# Altium schematic symbol library PV Buck v2.SCHLIB: 45 symbols
Pins are listed as number, name and electrical type; pins without a type are passive.

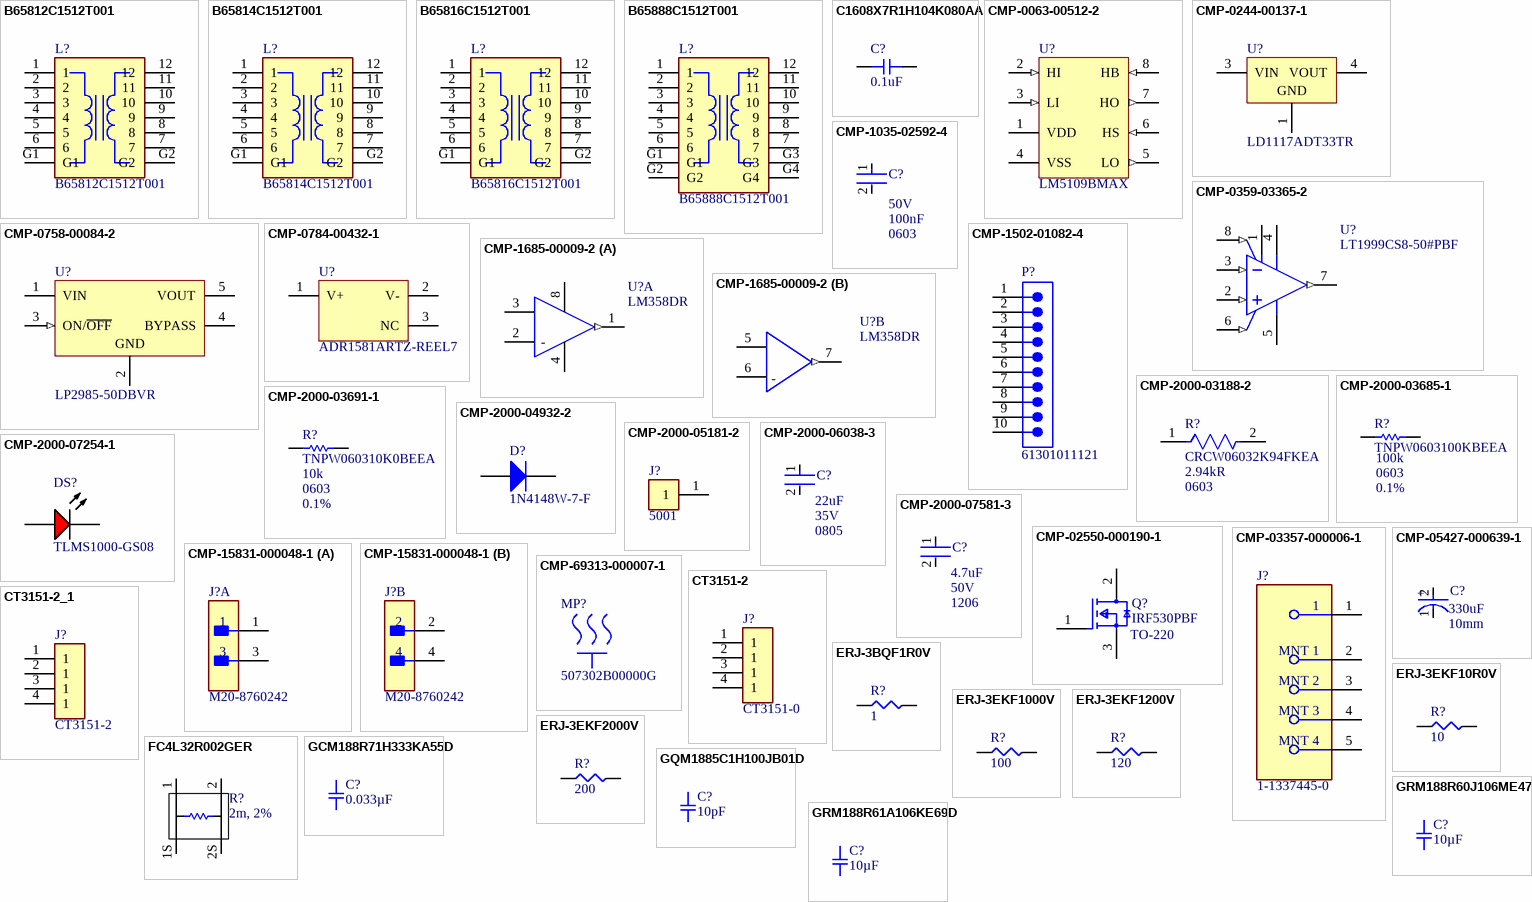
[diagram p0: symbols B65812C1512T001 to GRM188R61A106KE69D]

## B65812C1512T001
designator L?
BOBBIN COIL FORMER RM 8
footprint B65812C1512T001 (BOBBIN COIL FORMER RM8)
pins: 1, 2, 3, 4, 5, 6, 7, 8, 9, 10, 11, 12, G1, G2

## B65814C1512T001
designator L?
Coil Former, Rm 10, 1 Section, 12 Pin; MF: {'manufacturer': u'EPCOS'}; Package: None; Price: None; Value: *; MP: B65814C1512T001; Availability: Unavailable
footprint XFMR_B65814C1512T001
pins: 1, 2, 3, 4, 5, 6, 7, 8, 9, 10, 11, 12, G1, G2

## B65816C1512T001
designator L?
BOBBIN COIL FORMER RM 12
footprint B65816C1512T001 (BOBBIN COIL FORMER RM 12)
pins: 1, 2, 3, 4, 5, 6, 7, 8, 9, 10, 11, 12, G1, G2

## B65888C1512T001
designator L?
BOBBIN COIL FORMER RM 14
footprint B65888C1512T001 (BOBBIN COIL FORMER RM 14)
pins: 1, 2, 3, 4, 5, 6, 7, 8, 9, 10, 11, 12, G1, G2, G3, G4

## C1608X7R1H104K080AA
designator C?, comment 0.1uF
0.1uF, 0603, +/- 10%, 50V, X7R; Tolerance: +/- 10%; MfgPN: C1608X7R1H104K080AA; ID: 1; Mfg: TDK Corporation; TempOperatingMax: 125; TempOperatingMin: -55; TempStorageMax: 40; TempStorageMin: 5; Value: 0.1uF; Voltage: 50V; Material: X7R; RoHS: True; SMD: True; Footprint: 0603; Supplier 1: Digi-Key; Supplier Part Number 1: 445-1314-1-ND
footprint GENERIC_0603_CAP
pins: 1, 2

## CMP-0063-00512-2
designator U?, comment LM5109BMAX
High Voltage 1A Peak Half Bridge Gate Driver, 8-pin Narrow SOIC; Manufacturer: National Semiconductor; Manufacturer: TI National Semiconductor; PowerWise: N; PackageTopMarking: NSZXTT*L5109*BMA; CompType: MiscPower; ComponentLink2URL: http://www.national.com/pf/LM/LM5109B.html; PackageReference: M08A; Code_IPC: SOIC127P600-8; ComponentLink1Description: LM5109B Datasheet; ComponentLink1URL: http://www.national.com/ds/LM/LM5109B.pdf; ComponentLink3Description: M08A Package Page; RoHS: N; ComponentLink3URL: http://www.national.com/packaging/folders/m08a.html; ComponentLink2Description: LM5109B Web Page; DatasheetVersion: Feb-2007; PinCount: 8; RevisionNote: Component URLs added; Code_JEDEC: MS-012-AA; PackageVersion: revM, May-2009; PackageDescription: SOIC Narrow, 4.9 x 3.9 x 1.45mm, 8 Lead, 1.27mm Pitch; Manufacturer Part Number: LM5109BMAX
footprint M08A_L (SOIC, 8-Leads, Body 4.9x3.9mm, Pitch 1.27mm, IPC High Density)
footprint M08A_N (SOIC, 8-Leads, Body 4.9x3.9mm, Pitch 1.27mm, IPC Medium Density)
footprint M08A_M (SOIC, 8-Leads, Body 4.9x3.9mm, Pitch 1.27mm, IPC Low Density)
pins: 1 VDD (power), 2 HI (in), 3 LI (in), 4 VSS (power), 5 LO (out), 6 HS (in), 7 HO (out), 8 HB (in)

## CMP-0244-00137-1
designator U?, comment LD1117ADT33TR
1A, Low Drop Positive Voltage Regulator, 3.3V, 3-Pin DPAK, Tape and Reel; Manufacturer: STMicroelectronics; ComponentLink2URL: http://www.st.com/internet/com/TECHNICAL_RESOURCES/TECHNICAL_LITERATURE/DATASHEET/CD00002116.pdf; ComponentLink2Description: Datasheet; ComponentLink1URL: http://www.st.com; PackageDescription: 3-Pin Transistor Outline Package 2.28 mm Pitch, 9.7 mm Lead Span (DPAK); ComponentLink1Description: Manufacturer URL; PackageVersion: 2011; PackageReference: TO-252; DatasheetVersion: 2/12/2011; Manufacturer Part Number: LD1117ADT33TR
footprint TO-252_L (D-PAK, 4-Leads, Body 6.1x6.5mm, Pitch 2.28mm, Lead Span 9.7mm, IPC High Density)
footprint TO-252_N (D-PAK, 4-Leads, Body 6.1x6.5mm, Pitch 2.28mm, Lead Span 9.7mm, IPC Medium Density)
footprint TO-252_M (D-PAK, 4-Leads, Body 6.1x6.5mm, Pitch 2.28mm, Lead Span 9.7mm, IPC Low Density)
pins: 1 GND (power), 3 VIN (power), 4 VOUT (power)

## CMP-0359-03365-2
designator U?, comment LT1999CS8-50#PBF
Single Channel, High Voltage, Bidirectional Current Sense Amplifier, 2 MHz Typical GBW, 3 V/us Typical SR, 4.5 to 5.5 V, 8-Pin SOIC (S8-8), Commercial, Pb-Free; Manufacturer: Linear Technology; Linear Technology Part Number: LT1999-50; Manufacturer: Analog Devices / Linear Technology; Vos (mV) Typical: 0.5; SR (V/us) Typical: 3; Is (mA) Typical: 1.55; GBW (MHz) Typical: 2; Vs Min (V): 4.5; Vs Max (V): 5.5; Channels (#): 1; RoHS: Pb-Free; PackageDescription: 8-Pin Plastic Small Outline, Body 4.9 x 3.9 mm, Pitch 1.27 mm; ComponentLink3Description: Package Specification; PackageReference: LT-S8-8; PartNumber: LT1999CS8-50#PBF; DatasheetVersion: Rev. B; ComponentLink1URL: http://www.linear.com/; RevisionNote: URLs updated; Type: CSA; ComponentLink2URL: http://cds.linear.com/docs/en/datasheet/1999fb.pdf; Mounting Technology: Surface Mount; ComponentLink3URL: http://cds.linear.com/docs/en/packaging/05081610_G_SO8.pdf; ComponentLink1Description: Manufacturer URL; PackageVersion: Rev G; ComponentLink2Description: Datasheet; Manufacturer Part Number: LT1999CS8-50#PBF
footprint LT-S8-8_L (SOIC, 8-Leads, Body 4.9x3.9mm, Pitch 1.27mm, IPC High Density)
footprint LT-S8-8_M (SOIC, 8-Leads, Body 4.9x3.9mm, Pitch 1.27mm, IPC Low Density)
footprint LT-S8-8_N (SOIC, 8-Leads, Body 4.9x3.9mm, Pitch 1.27mm, IPC Medium Density)
pins: 1 V+ (power) "Power Supply Voltage. Pins 1 and 4 are tied internally together. The specified range of operation is 4.5V to 5.5V, but lower supply voltages (down to approximately 4V) is possible although the LT1999 is not tested or (See Datasheet)", 2 +IN (in) "Positive Sense Input Pin.", 3 -IN (in) "Negative Sense Input Pin.", 4 V+ (power) "Power Supply Voltage. Pins 1 and 4 are tied internally together. The specified range of operation is 4.5V to 5.5V, but lower supply voltages (down to approximately 4V) is possible although the LT1999 is not tested or (See Datasheet)", 5 GND (power) "Ground Pin.", 6 REF (in) "Reference Pin Input. The REF pin sets the output common mode level and is set halfway between V+ and GND using a divider made of two 160k resistors. The default open circuit potential of the REF pin is mid-supply.It can be (See Datasheet)", 7 OUT (out) "Voltage Output. VOUT = AV•(VSENSE +/- VOSI),where AV is the gain, and VOSI is the input referred offset voltage. The output amplifier has a low impedance output and is designed to drive up to 200pF capacitive loads directly. (See Datasheet)", 8 ~{SHDN} (in) "Shutdown Pin. When pulled to within 0.5V of GND (Pin 5), will place the LT1999 into low power shutdown. If the pin is left floating, an internal 2uA pullup current source will place the LT1999 into the active (amplifying) (See Datasheet)"

## CMP-0758-00084-2
designator U?, comment LP2985-50DBVR
Single Output Low Noise LDO, 150 mA, Fixed 5 V Output, 1.5% Tolerance, 2.2 to 16 V Input, Low IQ, 5-Pin SOT-23 (DBV), -40 to 125 degC, Green (RoHS & no Sb/Br), Tape and Reel; Manufacturer: Texas Instruments; Accuracy (%): 1.5; Iout (Max) (A): 0.15; Fixed Output Options (V): 5; Vdo (Typ) (mV): 280; Output Options: Fixed Output; Iq (Typ) (mA): 0.85; DatasheetVersion: SLVS522N; PackageDescription: 5-Pin Plastic Small Outline, Body 2.9 x 1.6 mm, Pitch 0.95 mm; RoHS: TRUE; ComponentLink3URL: http://www.ti.com/litv/pdf/mpds018j; PartNumber: LP2985-50DBVR; PackageReference: DBV0005A; ComponentLink2URL: http://www.ti.com/lit/ds/symlink/lp2985-50.pdf; Mounting Technology: Surface Mount; ComponentLink1Description: Manufacturer URL; Vin (V): 2.2 to 16; ComponentLink3Description: Package Specification; ComponentLink1URL: http://www.ti.com/; PackageVersion: 4073253-4/L; ComponentLink2Description: Datasheet; Packing: Tape and Reel; Operating Temperature Range (degC): -40 to 125; Manufacturer Part Number: LP2985-50DBVR
footprint DBV0005A_M (SOT23, 5-Leads, Body 3.05x1.75mm, Pitch 0.95mm, IPC Low Density)
footprint DBV0005A_N (SOT23, 5-Leads, Body 3.05x1.75mm, Pitch 0.95mm, IPC Medium Density)
footprint DBV0005A_L (SOT23, 5-Leads, Body 3.05x1.75mm, Pitch 0.95mm, IPC High Density)
pins: 1 VIN (power), 2 GND (power), 3 ON/~{OFF} (in), 4 BYPASS, 5 VOUT (power)

## CMP-0784-00432-1
designator U?, comment ADR1581ARTZ-REEL7
Micropower, Precision Shunt Voltage Reference, 1.25 V Output, Industrial, 3-pin SOT23 (RT-3), Reel; Manufacturer: Analog Devices; Ref Out TC (ppm/C): 100; Vout: 1.25V; PackageDescription: 3-Pin Small Outline Transistor Package, Body 2.9 x 1.3 mm, Pitch 0.96 mm; ComponentLink4Description: URL Link1; ComponentLink3URL: http:/www.analog.com/static/imported-files/packages/PKG_PDF/SOT-23-3 (RT)/RT_3.pdf; ComponentLink2URL: http://www.analog.com/static/imported-files/data_sheets/ADR1581.pdf; ComponentLink1Description: Manufacturer URL; Code_JEDEC: TO-236-AB; PartNumber: ADR1581ARTZ-REEL7; ComponentLink2Description: Datasheet; DatasheetVersion: Rev. 0; PackageVersion: 011909-C, 02/2009; ComponentLink4URL: Product URL:http://www.analog.com/en/special-linear-functions/voltage-references/adr1581/products/product.html; Mounting Technology: Surface Mount; PackageReference: RT-3; Packing: Reel; ComponentLink1URL: http://www.analog.com/en/index.html; ComponentLink3Description: Package Specification; Operating Temp Range: -40 to 85 degC; Manufacturer Part Number: ADR1581ARTZ-REEL7
footprint ADI-RT-3_N (SOT23, 3-Leads, Body 2.9x1.3mm, Pitch 0.96mm, IPC Medium Density)
footprint ADI-RT-3_L (SOT23, 3-Leads, Body 2.9x1.3mm, Pitch 0.96mm, IPC High Density)
pins: 1 V+ (power), 2 V- (power), 3 NC

## CMP-1035-02592-4
designator C?, comment Voltage Rating: 50V  Capacitance: 100nF  Case Code (Imperial): 0603  (hidden comment: 06035C104KAT2A)
General Purpose Ceramic Capacitor, 0603, 100nF, 10%, X7R, 15%, 50V; Manufacturer: Kyocera AVX; Manufacturer Part Number: 06035D104KAT2A; Manufacturer: Murata; Manufacturer Part Number: GRM188R71H104KA93D; Manufacturer: KEMET; Manufacturer Part Number: C0603C104K5RACTM; Manufacturer: Yageo; Manufacturer Part Number: CC0603KPX7R9BB104; Manufacturer: Vishay; Manufacturer Part Number: VJ0603Y104KXAPW1BC; Manufacturer Part Number: 06035C104KAT4A; Manufacturer: TDK; Manufacturer Part Number: C1608X5R1H104K; Manufacturer: Vishay Vitramon; Manufacturer Part Number: VJ0603Y104KXACW1BC; Manufacturer Part Number: C0603C104K5RAC; Manufacturer Part Number: CC0603KRX7R9BB104; Manufacturer Part Number: C1608X7R1H104K; Manufacturer: Vishay Semiconductors; Manufacturer Part Number: VJ0603Y104KXAAC; Manufacturer Part Number: C0603C104K5RACTU; Dissipation Factor: 2.5%; Radiation Hardening: No; Termination: SMD/SMT; Tolerance: 10%; Lead Free: Lead Free; Width: 0.81mm; Max Operating Temperature: 125°C; Thickness: 0.035inch; Height: 0.9mm; Case/Package: 0603; Depth: 0.81mm; Number of Pins: 2; REACH SVHC: No SVHC; Voltage: 50V; Voltage Rating (DC): 50V; Mount: Surface Mount; Length: 1.6mm; Min Operating Temperature: -55°C; Packaging: Tape and Reel; Case Code (Metric): 1608; Dielectric Material: Ceramic; Package Quantity: 1; Dielectric: X7R; Contact Plating: Tin; Manufacturer Part Number: 06035C104KAT2A
footprint FP-0603-L_1_6_0_15-W_0_81-MFG
footprint FP-0603-L_1_6_0_15-W_0_81-IPC_B
footprint FP-0603-L_1_6_0_15-W_0_81-IPC_A
footprint FP-0603-L_1_6_0_15-W_0_81-IPC_C
pins: 1, 2

## CMP-1502-01082-4
designator P?, comment 61301011121
NexarPartId: 18818159; Manufacturer: Wurth Electronics; Operating Supply Voltage: 250V; Insulation Resistance: 1GΩ; Contact Resistance: 20mΩ; Current Rating: 3A; Connector Type: Male Pin; Gender: Male; Number of Contacts: 10; Pitch: 2.54mm; REACH SVHC: Unknown; Min Operating Temperature: -40°C; Max Operating Temperature: 105°C; Height: 8.74mm; Packaging: Bulk; Orientation: Vertical; Number of Pins: 10; Contact Mating Length: 5.9944mm; Voltage Rating: 250V; Number of Positions: 10; Termination: Solder; Number of Rows: 1; Contact Material: Copper; Housing Material: PBT; Mount: Through Hole; Lead Pitch: 2.54mm; Contact Plating: Gold; Contact Gender: Male; Color: Black; Flammability Rating: UL94 V-0; RoHS: Compliant; Width: 25.4mm; Length: 2.54mm; Manufacturer Part Number: 61301011121
footprint 61301011121 (THT Vertical Pin Header WR-PHD, Pitch 2.54 mm, Single Row, 10 pins)
pins: 1, 2, 3, 4, 5, 6, 7, 8, 9, 10

## CMP-1685-00009-2
designator U?, comment LM358DR
IC OPAMP GP 2 CIRCUIT 8SOIC; Manufacturer: Texas Instruments; Output Current: 30mA; Min Dual Supply Voltage: 1.5V; Input Offset Voltage (Vos): 7mV; Power Supply Rejection Ratio (PSRR): 65dB; Unity Gain Bandwidth Product: 700kHz; Number of Channels: 2; Min Supply Voltage: 3V; Max Dual Supply Voltage: 16V; Dual Supply Voltage: 9V; Max Supply Voltage: 32V; Nominal Supply Current: 1.2mA; Slew Rate: 0.3V/µs; Input Bias Current: 250nA; Voltage Gain: 100dB; Operating Supply Current: 1mA; REACH SVHC: No SVHC; Package Quantity: 2500; Width: 3.91mm; Max Operating Temperature: 70°C; Min Operating Temperature: 0°C; Mount: Surface Mount; Length: 4.9mm; Radiation Hardening: No; Case/Package: SOIC; Lead Free: Lead Free; Number of Elements: 2; Packaging: Tape and Reel; Output Current per Channel: 30mA; Number of Circuits: 2; Bandwidth: 700kHz; Operating Supply Voltage: 16V; Gain Bandwidth Product: 700kHz; Number of Pins: 8; Number of Amplifiers: 2; Height: 1.58mm; Common Mode Rejection Ratio: 65dB; Contact Plating: Gold; Manufacturer Part Number: LM358DR
footprint FP-D0008A-MFG
footprint FP-D0008A-IPC_A
footprint FP-D0008A-IPC_B
footprint FP-D0008A-IPC_C
part A pins: 1 1OUT (out), 2 IN1- (hiz), 3 IN1+ (hiz), 4 V- (power), 8 V+ (power)
part B pins: 5 IN2+ (hiz), 6 IN2- (hiz), 7 2OUT (out)
part A text: -
part B text: -

## CMP-2000-03188-2
designator R?, comment CRCW06032K94FKEA  Resistance: 2.94kR  Case/Package: 0603
RES Thick Film, 2.94kΩ, 1%, 0.1W, 100ppm/°C, 0603; Manufacturer: Vishay; Max Power Dissipation: 100mW; Voltage Rating: 75V; Military Standard: Not; Composition: Thick Film; Number of Terminations: 2; Case Code (Metric): 1608; Max Operating Temperature: 155°C; Contact Plating: Tin; Package Quantity: 10; Power Rating: 100mW; Termination: SMD/SMT; Length: 1.55mm; Min Operating Temperature: -55°C; Radiation Hardening: No; Packaging: Tape and Reel; Tolerance: 1%; Temperature Coefficient: 100ppm/°C; Case Code (Imperial): 0603; Height: 0.45mm; Number of Pins: 2; Depth: 0.85mm; Width: 0.85mm; Weight: 7.1E-05oz; Features: Automotive AEC-Q200; Manufacturer Part Number: CRCW06032K94FKEA
footprint FP-CRCW0603-e3-IPC_B
footprint FP-CRCW0603-e3-IPC_C
footprint FP-CRCW0603-e3-MFG
footprint FP-CRCW0603-e3-IPC_A
pins: 1, 2

## CMP-2000-03685-1
designator R?, comment TNPW0603100KBEEA  Reistance: 100k  Size: 0603  Tolerance: 0.1%
Manufacturer: Vishay Dale; Part Number: TNPW0603100KBEEA; Manufacturer Part Number: TNPW0603100KBEEA
footprint RESC1609X55X30ML10T20 (Chip Resistor, 2-Leads, Body 1.60x0.85mm, IPC Low Density)
footprint RESC1609X55X30NL10T20 (Chip Resistor, 2-Leads, Body 1.60x0.85mm, IPC Medium Density)
footprint RESC1609X55X30LL10T20 (Chip Resistor, 2-Leads, Body 1.60x0.85mm, IPC High Density)
pins: 1, 2
1 alternate drawing of the same symbol

## CMP-2000-03691-1
designator R?, comment TNPW060310K0BEEA  Resistance: 10k  Size Code: 0603  Tolerance: 0.1%
Manufacturer: Vishay Dale; Part Number: TNPW060310K0BEEA; Manufacturer Part Number: TNPW060310K0BEEA
footprint RESC1609X55X30NL10T20 (Chip Resistor, 2-Leads, Body 1.60x0.85mm, IPC Medium Density)
footprint RESC1609X55X30ML10T20 (Chip Resistor, 2-Leads, Body 1.60x0.85mm, IPC Low Density)
footprint RESC1609X55X30LL10T20 (Chip Resistor, 2-Leads, Body 1.60x0.85mm, IPC High Density)
pins: 1, 2
1 alternate drawing of the same symbol

## CMP-2000-04932-2
designator D?, comment 1N4148W-7-F
Fast Switching Diode, 100 V, 0.15 A, -65 to 150 degC, 2-Pin?SOD123, RoHS, Tape and Reel; Manufacturer: Diodes; Recovery Time: 4ns; Brand: DiodesIncorporated; Unit Weight: 0.000353oz; Max Surge Current: 2A; Peak Reverse Voltage: 100V; Ir - Reverse Current: 1uA; Vf - Forward Voltage: 1.25V; Configuration: Single; If - Forward Current: 0.15A; Product Category: Diodes-GeneralPurpose,Power,Switching; Operating Temperature Range: -65Cto+150C; Packaging: Reel; Manufacturer URL: http://www.diodes.com/; Maximum Operating Temperature: +150C; Height: 1.25mm; Minimum Operating Temperature: -65C; Product: SwitchingDiodes; Package URL: http://www.diodes.com/datasheets/ds18004.pdf; Type: SwitchingDiode; Package Reference: SOD123-2; Width: 1.7mm; Datasheet URL: http://www.farnell.com/datasheets/1915529.pdf; Datasheet Version: Rev. 24-2, 10/2013; Series: 1N4148; Factory Pack Quantity: 3000; Length: 2.85mm; RoHS: True; Manufacturer: DiodesIncorporated; Mounting Style: SMD/SMT; Package / Case: SOD-123; Manufacturer Part Number: 1N4148W-7-F
footprint DIOD-SOD123-2_V (SOD123, 2-Leads, Body 2.7x1.55mm, Height 1.45mm)
pins: 1 A, 2 K

## CMP-2000-05181-2
designator J?, comment 5001
PC TEST POINT MINIATURE BLACK; Manufacturer: Keystone Electronics; Body Material: Bronze; Plating: Silver; Inside Diameter: 1.27mm; Hole Diameter: 1.6mm; Number of Ports: 1; Outside Diameter: 2.54mm; Insulation: Insulated; Insulation Material: Nylon; Mount: Through Hole; RoHS Compliant: Yes; Series: THM; Height: 0.3inch; Termination: Through Hole; Material: Nylon; Packaging: Bulk; Contact Material: Bronze; REACH SVHC: No SVHC; Contact Plating: Silver; Orientation: Straight; Lead Free: Lead Free; Package Quantity: 100; Length: 7.62mm; Flammability Rating: UL94 V-0; Number of Contacts: 1; Diameter: 2.54mm; Housing Color: Black; Color: Black; Manufacturer Part Number: 5001
footprint FP-5001-MFG
pins: 1

## CMP-2000-06038-3
designator C?, comment Case/Package: 0805  Voltage Rating (DC): 35V  Capacitance: 22uF  (hidden comment: C2012X5R1V226M125AC)
Multilayer Ceramic Capacitors 22μF ±20% 35V X5R SMD 0805; Manufacturer: TDK; Tolerance: 20%; RoHS Compliant: Yes; Height: 1.25mm; Termination: SMD/SMT; Thickness: 0.057inch; Max Operating Temperature: 85°C; Min Operating Temperature: -55°C; Length: 0.079inch; Dielectric: X5R; Dielectric Material: Ceramic; Voltage Rating: 35V; Mount: Surface Mount; Package Quantity: 2000; Lead Free: Lead Free; Weight: 0.000194oz; REACH SVHC: No SVHC; Width: 0.049inch; Packaging: Tape and Reel; Series: C; Case Code (Metric): 2012; Case Code (Imperial): 0805; Manufacturer Part Number: C2012X5R1V226M125AC
footprint FP-C2012-125-0_2-MFG
footprint FP-C2012-125-0_2-IPC_A
footprint FP-C2012-125-0_2-IPC_B
footprint FP-C2012-125-0_2-IPC_C
pins: 1, 2

## CMP-2000-07254-1
designator DS?, comment TLMS1000-GS08
Low Current LED, 40 mW, 1.8 V, -40 to 100 degC, 2-Pin SMD (0603), RoHS, Tape and Reel; Manufacturer: Vishay; Lens Shape: Rectangular; Automotive Qualification Standard: AEC-Q100; Wavelength Typ: 636nm; SVHC: ToBeAdvised; LED Colour: Red; Bulb Size: 1.6mmx0.8mm; Forward Voltage: 1.8V; Luminous Intensity: 4mcd; Forward Current If: 2mA; Viewing Angle: 80°; Datasheet Version: Rev. 1.7, 02/2011; Datasheet URL: https://datasheet.ciiva.com/5798/1698881-5798337.pdf; LED Mounting: SMD; Packaging: CutTape; Package Reference: TLMS1000; Manufacturer URL: http://www.vishay.com/; Mounting Technology: SurfaceMount; Product Range: -; Package Description: 2-Pin Surface Mount Device, Body 1.6 x 0.8 mm; MSL: MSL2-1year; Manufacturer Part Number: TLMS1000-GS08
footprint VISH-TLMS1000_V (SMD, 2-Leads, Body 0.8x1.6mm)
pins: 1 A, 2 K

## CMP-2000-07581-3
designator C?, comment Voltage Rating (DC): 50V  Case/Package: 1206  Capacitance: 4.7uF  (hidden comment: 12065C475KAT2A)
CAP CER 4.7UF 50V X7R 1206; Manufacturer: Kyocera AVX; Dissipation Factor: 2.5%; Tolerance: 10%; Mount: Surface Mount; Width: 1.6mm; Voltage Rating: 50V; Case Code (Imperial): 1206; Packaging: Tape and Reel; Min Operating Temperature: -55°C; Contact Plating: Tin; Radiation Hardening: No; Depth: 1.6mm; Series: -; Construction: Flat; Dielectric: X7R; Length: 3.2mm; Max Operating Temperature: 125°C; RoHS Compliant: Yes; Lead Free: Lead Free; Package Quantity: 1; Case Code (Metric): 3216; Termination: SMD/SMT; REACH SVHC: No SVHC; Thickness: 0.07inch; Manufacturer Part Number: 12065C475KAT2A
footprint FP-1206-L_3_2_0_2-W_1_6_0-IPC_B
footprint FP-1206-L_3_2_0_2-W_1_6_0-MFG
footprint FP-1206-L_3_2_0_2-W_1_6_0-IPC_C
footprint FP-1206-L_3_2_0_2-W_1_6_0-IPC_A
pins: 1, 2

## CMP-02550-000190-1
designator Q?, comment IRF530PBF  PackagerOD: TO-220
MOSFET N-CH 100V 14A TO-220AB; Manufacturer: Vishay; Reverse Recovery Charge: 850nC; Rthja Max: 62°C/W; Power Dissipation: 88W; Depletion Mode: False; Input Capacitace At Vds: 670pF @ 25V; Pulse Drain Current: 56A; Turn On Delay Time: 10ns; Drain To Source Resistance: 0.16Ω; Number Of N Channels: 1; Max Junction Temp: +175°C; Threshold Vgs Max: 4V; Standoff Height: 3.33mm; Max Forward Diode Voltage: 2.5V; Turn Off Delay Time: 23ns; Gate To Source Voltage: 20V; Threshold Vgs Min: 2V; Reverse Recovery Time: 150ns; Gate Charge At Vgs: 26nC @ 10V; Temperature: -55°C to +175°C; Drain To Source Voltage: 100V; Mouser Description: MOSFET N-Chan 100V 14 Amp; Device Class L2: Transistors; Temperature Range High: +175°C; ComponentLink2URL: http://www.vishay.com/docs/91019/91019.pdf; Lead Free: Yes; Height: 19.89mm; Octopart: https://octopart.com/irf530pbf-vishay-46547999; Category: Trans; ComponentLink2Description: Datasheet; RoHS: TRUE; Device Class L3: MOSFETs; Automotive: No; Device Class L1: Discrete Semiconductors; Package: X15-0364; Manufacturer Part Number: IRF530PBF; Continuous Drain Current: 14A; Digikey Description: MOSFET N-CH 100V 14A TO-220AB; Number Of Channels: 1; Drain To Source Breakdown Voltage: 100V; Temperature Range Low: -55°C
footprint FP-X15-0364-MFG
pins: 1 G, 2 D, 3 S

## CMP-03357-000006-1
designator J?, comment 1-1337445-0
CONN BNC JACK STR 50 OHM PCB; Manufacturer: TE Connectivity; PCB Mount Retention: With; Operating Frequency: 0 to 4Hz; PCB Mounting Orientation: Vertical; PCB Thickness: 0.126inch; Body Plating: Silver; Frequency: 4GHz; Impedance: 50R; Insulation Resistance: 5GR; Body Material: Brass; Dielectric Material: PTFE; Gender: Female; Sealable: No (Without); Number of Positions: 1; Orientation: Straight; RoHS Compliant: Yes; Min Operating Temperature: -65°C; Packaging: Bag; Fastening Type: Bayonet; Radiation Hardening: No; Max Frequency: 4GHz; Material: Brass; Contact Plating: Silver; ELV: Compliant; Depth: 12mm; Series: BNC; Package Quantity: 50; Connector Type: BNC; Contact Material: Brass; Max Operating Temperature: 165°C; Length: 12mm; Termination: Solder; Mount: Through Hole; Insulation Material: Polytetrafluoroethylene; Manufacturer Part Number: 1-1337445-0
footprint FP-1-1337445-0-MFG
pins: 1, 2 MNT 1, 3 MNT 2, 4 MNT 3, 5 MNT 4

## CMP-05427-000639-1
designator C?, comment Diameter: 10mm  Capacitance: 330uF  (hidden comment: EL1V331MP51016U)
Aluminum Electrolytic Capacitors (Radial Lead Type) AEC-Q200 Qualified 330uF ±20% 35V; Manufacturer: Panasonic; Manufacturer Part Number: EEU-FC1E471; Dielectric Material: Aluminium; Leakage Current: 3uA; ESR (Equivalent Series Resistance): 68mR; Lead Diameter: 0.6mm; Ripple Current: 1.43; Life (Hours): 3000Hour; Termination: Radial; Length: 16mm; RoHS Compliant: Yes; Series: FC; Tolerance: 20%; Package Quantity: 200; Radiation Hardening: No; Case/Package: Radial; Voltage Rating: 35V; Voltage: 35V; Contact Plating: Tin; Construction: RADIAL; Max Operating Temperature: 105°C; Min Operating Temperature: -55°C; REACH SVHC: No SVHC; Height: 16mm; Ratings: AEC-Q200; Packaging: Bulk; Mount: Through Hole; Impedance: 68mR; Height - Seated (Max): 0.63inch; Lead Free: Lead Free; Ripple Current (100 kHz AC): 1.43; Voltage Rating (DC): 35V; Lead Pitch: 5mm; Size: 16mm
footprint FP-RAD-TH-D_10_0_5-L_16_1-MFG
pins: 1 C, 2 A
text: +

## CMP-15831-000048-1
designator J?, comment M20-8760242
CONN HEADER SMD 4POS 2.54MM; Manufacturer: Harwin; Contact Resistance: 25mR; Max Current Rating: 3A; Row Spacing: 0.1inch; Gender: Male; Number of Contacts: 4; Connector Type: Male Pin; Contact Mating Length: 0.228inch; Max Operating Temperature: 105°C; Depth: 5.08mm; Contact Material: Bronze; Packaging: Bulk; Series: M20; Radiation Hardening: No; Length: 5.08mm; Contact Type: Male Pin; Housing Material: Nylon; Pitch: 2.54mm; Color: Black; RoHS Compliant: Yes; Package Quantity: 1000; Orientation: Straight; Housing Color: Black; Min Operating Temperature: -40°C; Termination: Solder; Contact Plating: Gold; Mount: Surface Mount; Number of Rows: 2; Number of Positions: 4; Manufacturer Part Number: M20-8760242
footprint FP-M20-8760242-MFG
part A pins: 1, 3
part B pins: 2, 4

## CMP-69313-000007-1
designator MP?, comment 507302B00000G
HEATSINK TO-220 2.5W LOW PROFILE; Manufacturer: Aavid Thermalloy; Thermal Resistance @ Forced Air Flow (100 LFM): 10°C/W; Natural Thermal Resistance: 24°C/W; Finish: Anodized; Shape: Square; Height Off Base: 0.38inch; Series: 5073; Package Cooled: TO-220; RoHS Compliant: Yes; Type: Passive; Color: Black; Length: 19.05mm; Package Quantity: 2000; Case/Package: TO-220; Mount: Bolt; Packaging: Bulk; Width: 19.05mm; Depth: 19.05mm; Material: Aluminium; Height: 9.65mm; Weight: 0.25lb; Lead Free: Lead Free; Radiation Hardening: No; REACH SVHC: No SVHC; Manufacturer Part Number: 507302B00000G
footprint FP-507302B00000G-MFG

## CT3151-2
designator J?, comment CT3151-0
Banana Jack Connector Standard Banana Solder Red; MF: {'manufacturer': u'Cal Test'}; MP: CT3151-2; Package: None; Price: None; Value: *; Availability: Unavailable
footprint CT3151-0
pins: 1, 2 1, 3 1, 4 1

## CT3151-2_1
designator J?, comment CT3151-2
Banana Jack Connector Standard Banana Solder Red; MF: {'manufacturer': u'Cal Test'}; Package: None; Price: None; Value: *; MP: CT3151-2; Availability: Unavailable
footprint CALTEST_CT3151-2
pins: 1, 2 1, 3 1, 4 1

## ERJ-3BQF1R0V
designator R?, comment 1
RES SMD 1 OHM 1% 1/4W 0603; Part Number: ERJ-3BQF1R0V; Manufacturer: Panasonic Electronic Components; Factory Stock: 0; Unit Price (USD): 0.05386; @ qty: 1500; Power (Watts): 0.25W, 1/4W; Temperature Coefficient: ±200ppm/°C; Datasheets: https://industrial.panasonic.com/cdbs/www-data/pdf/RDA0000/AOA0000C239.pdf; Image: //media.digikey.com/Photos/Panasonic%20Photos/MFG_ERJ-P6W%20Series.jpg; Digi-Key Part Number: P17371CT-ND; Quantity Available: 30514; Minimum Quantity: 1; Packaging: Cut Tape (CT); Series: ERJ; Part Status: Active; Value: 1; Tolerance: ±1%; Composition: Thick Film; Features: Automotive AEC-Q200, Current Sense; Operating Temperature: -55°C ~ 125°C; Package / Case: 0603 (1608 Metric); Supplier Device Package: 0603; Size / Dimension: 0.063" L x 0.031" W (1.60mm x 0.80mm); Height - Seated (Max): 0.022" (0.55mm); Number of Terminations: 2; Failure Rate: -
footprint SMD-0603-RES
pins: 1, 2

## ERJ-3EKF10R0V
designator R?, comment 10
RES SMD 10 OHM 1% 1/10W 0603; Part Number: ERJ-3EKF10R0V; Manufacturer: Panasonic Electronic Components; Factory Stock: 0; Unit Price (USD): 0.00379; @ qty: 1500; Minimum Quantity: 1; Power (Watts): 0.1W, 1/10W; Temperature Coefficient: ±100ppm/°C; Datasheets: http://industrial.panasonic.com/www-cgi/jvcr13pz.cgi?E+PZ+3+AOA0002+ERJ3EKF10R0V+7+WW; Image: //media.digikey.com/Photos/Panasonic%20Photos/MFG_ERJ-P6W%20Series.jpg; Digi-Key Part Number: P10.0HCT-ND; Quantity Available: 676435; Packaging: Cut Tape (CT); Series: ERJ; Part Status: Active; Value: 10; Tolerance: ±1%; Composition: Thick Film; Features: Automotive AEC-Q200; Operating Temperature: -55°C ~ 155°C; Package / Case: 0603 (1608 Metric); Supplier Device Package: 0603; Size / Dimension: 0.063" L x 0.031" W (1.60mm x 0.80mm); Height - Seated (Max): 0.022" (0.55mm); Number of Terminations: 2; Failure Rate: -
footprint SMD-0603-RES
pins: 1, 2

## ERJ-3EKF1000V
designator R?, comment 100
RES SMD 100 OHM 1% 1/10W 0603; Part Number: ERJ-3EKF1000V; Manufacturer: Panasonic Electronic Components; Factory Stock: 0; Unit Price (USD): 0.00379; @ qty: 1500; Minimum Quantity: 1; Power (Watts): 0.1W, 1/10W; Temperature Coefficient: ±100ppm/°C; Datasheets: http://industrial.panasonic.com/www-cgi/jvcr13pz.cgi?E+PZ+3+AOA0002+ERJ3EKF1000V+7+WW; Image: //media.digikey.com/Photos/Panasonic%20Photos/MFG_ERJ-P6W%20Series.jpg; Digi-Key Part Number: P100HCT-ND; Quantity Available: 1544120; Packaging: Cut Tape (CT); Series: ERJ; Part Status: Active; Value: 100; Tolerance: ±1%; Composition: Thick Film; Features: Automotive AEC-Q200; Operating Temperature: -55°C ~ 155°C; Package / Case: 0603 (1608 Metric); Supplier Device Package: 0603; Size / Dimension: 0.063" L x 0.031" W (1.60mm x 0.80mm); Height - Seated (Max): 0.022" (0.55mm); Number of Terminations: 2; Failure Rate: -
footprint SMD-0603-RES
pins: 1, 2

## ERJ-3EKF1200V
designator R?, comment 120
RES SMD 120 OHM 1% 1/10W 0603; Part Number: ERJ-3EKF1200V; Manufacturer: Panasonic Electronic Components; Factory Stock: 0; Unit Price (USD): 0.00379; @ qty: 1500; Minimum Quantity: 1; Power (Watts): 0.1W, 1/10W; Temperature Coefficient: ±100ppm/°C; Datasheets: http://industrial.panasonic.com/www-cgi/jvcr13pz.cgi?E+PZ+3+AOA0002+ERJ3EKF1200V+7+WW; Image: //media.digikey.com/Photos/Panasonic%20Photos/MFG_ERJ-P6W%20Series.jpg; Digi-Key Part Number: P120HCT-ND; Quantity Available: 84623; Packaging: Cut Tape (CT); Series: ERJ; Part Status: Active; Value: 120; Tolerance: ±1%; Composition: Thick Film; Features: Automotive AEC-Q200; Operating Temperature: -55°C ~ 155°C; Package / Case: 0603 (1608 Metric); Supplier Device Package: 0603; Size / Dimension: 0.063" L x 0.031" W (1.60mm x 0.80mm); Height - Seated (Max): 0.022" (0.55mm); Number of Terminations: 2; Failure Rate: -
footprint SMD-0603-RES
pins: 1, 2

## ERJ-3EKF2000V
designator R?, comment 200
RES SMD 200 OHM 1% 1/10W 0603; Part Number: ERJ-3EKF2000V; Manufacturer: Panasonic Electronic Components; Factory Stock: 0; Unit Price (USD): 0.00379; @ qty: 1500; Minimum Quantity: 1; Power (Watts): 0.1W, 1/10W; Temperature Coefficient: ±100ppm/°C; Datasheets: http://industrial.panasonic.com/www-cgi/jvcr13pz.cgi?E+PZ+3+AOA0002+ERJ3EKF2000V+7+WW; Image: //media.digikey.com/Photos/Panasonic%20Photos/MFG_ERJ-P6W%20Series.jpg; Digi-Key Part Number: P200HCT-ND; Quantity Available: 74155; Packaging: Cut Tape (CT); Series: ERJ; Part Status: Active; Value: 200; Tolerance: ±1%; Composition: Thick Film; Features: Automotive AEC-Q200; Operating Temperature: -55°C ~ 155°C; Package / Case: 0603 (1608 Metric); Supplier Device Package: 0603; Size / Dimension: 0.063" L x 0.031" W (1.60mm x 0.80mm); Height - Seated (Max): 0.022" (0.55mm); Number of Terminations: 2; Failure Rate: -
footprint SMD-0603-RES
pins: 1, 2

## FC4L32R002GER
designator R?, comment 2m, 2%
2m, 0612, 2%, 1W; MfgPN: FC4L32R002GER; ID: 79; Mfg: Ohmite; Voltage: 0.045V; Current: 45A; TempOperatingMax: 155; TempOperatingMin: -55; Value: 2m; Tolerance: 2%; Power: 1W; RoHS: True; SMD: True; Material: Metal Foil; Footprint: 0612; Supplier 1: Digi-Key; Supplier Part Number 1: FC4L32R002GER-ND
footprint OHMITE_FC4L32
pins: 1, 1S, 2, 2S

## GCM188R71H333KA55D
designator C?, comment 0.033µF
CAP CER 0.033UF 50V X7R 0603; Part Number: GCM188R71H333KA55D; Manufacturer: Murata Electronics North America; Factory Stock: 0; Unit Price (USD): 0.16; Minimum Quantity: 1; Tolerance: ±10%; Datasheets: http://www.murata.com/~/media/webrenewal/support/library/catalog/products/capacitor/mlcc/c03e.ashx; Image: //media.digikey.com/Renders/Murata%20Renders/0603%28GCM188%29.jpg; Digi-Key Part Number: 490-8025-1-ND; Quantity Available: 47941; @ qty: 0; Packaging: Cut Tape (CT); Series: GCM; Part Status: Active; Value: 0.033µF; Voltage: 50V; Temperature Coefficient: X7R; Operating Temperature: -55°C ~ 125°C; Features: -; Ratings: AEC-Q200; Applications: Automotive; Mounting Type: Surface Mount, MLCC; Package / Case: 0603 (1608 Metric); Size / Dimension: 0.063" L x 0.031" W (1.60mm x 0.80mm); Height - Seated (Max): -; Thickness (Max): 0.035" (0.90mm); Lead Spacing: -; Lead Style: -
footprint SMD-0603C
pins: 1, 2

## GQM1885C1H100JB01D
designator C?, comment 10pF
CAP CER 10PF 50V NP0 0603; Part Number: GQM1885C1H100JB01D; Manufacturer: Murata Electronics North America; Factory Stock: 0; Unit Price (USD): 0.6; Minimum Quantity: 1; Tolerance: ±5%; Temperature Coefficient: C0G, NP0; Datasheets: http://www.murata.com/~/media/webrenewal/support/library/catalog/products/capacitor/mlcc/c02e.pdf; Image: //media.digikey.com/Renders/Murata%20Renders/0603%28LQG18%29.jpg; Digi-Key Part Number: 490-3570-1-ND; Quantity Available: 26659; @ qty: 0; Packaging: Cut Tape (CT); Series: GQM; Part Status: Active; Value: 10pF; Voltage: 50V; Operating Temperature: -55°C ~ 125°C; Features: High Q, Low Loss; Ratings: -; Applications: RF, Microwave, High Frequency; Mounting Type: Surface Mount, MLCC; Package / Case: 0603 (1608 Metric); Size / Dimension: 0.063" L x 0.031" W (1.60mm x 0.80mm); Height - Seated (Max): -; Thickness (Max): 0.035" (0.90mm); Lead Spacing: -; Lead Style: -
footprint SMD-0603C
pins: 1, 2

## GRM188R60J106ME47D
designator C?, comment 10µF
CAP CER 10UF 6.3V X5R 0603; Part Number: GRM188R60J106ME47D; Manufacturer: Murata Electronics North America; Factory Stock: 0; Unit Price (USD): 0.15; Minimum Quantity: 1; Tolerance: ±20%; Datasheets: http://www.murata.com/~/media/webrenewal/support/library/catalog/products/capacitor/mlcc/c02e.pdf; Image: //media.digikey.com/Renders/Murata%20Renders/ZRB-SERIES-0402.jpg; Digi-Key Part Number: 490-3896-1-ND; Quantity Available: 1578882; @ qty: 0; Packaging: Cut Tape (CT); Series: GRM; Part Status: Active; Value: 10µF; Voltage: 6.3V; Temperature Coefficient: X5R; Operating Temperature: -55°C ~ 85°C; Features: -; Ratings: -; Applications: General Purpose; Mounting Type: Surface Mount, MLCC; Package / Case: 0603 (1608 Metric); Size / Dimension: 0.063" L x 0.031" W (1.60mm x 0.80mm); Height - Seated (Max): -; Thickness (Max): 0.035" (0.90mm); Lead Spacing: -; Lead Style: -
footprint SMD-0603C
pins: 1, 2

## GRM188R61A106KE69D
designator C?, comment 10µF
CAP CER 10UF 10V X5R 0603; Part Number: GRM188R61A106KE69D; Manufacturer: Murata Electronics North America; Factory Stock: 0; Unit Price (USD): 0.18; Minimum Quantity: 1; Tolerance: ±10%; Datasheets: http://www.murata.com/~/media/webrenewal/support/library/catalog/products/capacitor/mlcc/c02e.pdf; Image: //media.digikey.com/Renders/Murata%20Renders/ZRB-SERIES-0402.jpg; Digi-Key Part Number: 490-10474-1-ND; Quantity Available: 59221; @ qty: 0; Packaging: Cut Tape (CT); Series: GRM; Part Status: Active; Value: 10µF; Voltage: 10V; Temperature Coefficient: X5R; Operating Temperature: -55°C ~ 85°C; Features: Derating Recommended; Ratings: -; Applications: General Purpose; Mounting Type: Surface Mount, MLCC; Package / Case: 0603 (1608 Metric); Size / Dimension: 0.063" L x 0.031" W (1.60mm x 0.80mm); Height - Seated (Max): -; Thickness (Max): 0.037" (0.95mm); Lead Spacing: -; Lead Style: -
footprint SMD-0603C
pins: 1, 2

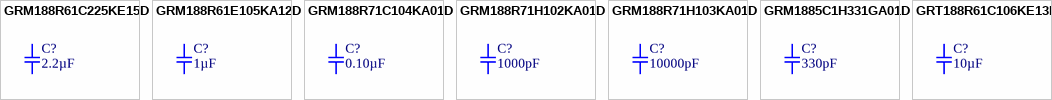
[diagram p1: symbols GRM188R61C225KE15D to GRT188R61C106KE13D]

## GRM188R61C225KE15D
designator C?, comment 2.2µF
CAP CER 2.2UF 16V X5R 0603; Part Number: GRM188R61C225KE15D; Manufacturer: Murata Electronics North America; Factory Stock: 0; Unit Price (USD): 0.12; Minimum Quantity: 1; Tolerance: ±10%; Datasheets: http://www.murata.com/~/media/webrenewal/support/library/catalog/products/capacitor/mlcc/c02e.pdf; Image: //media.digikey.com/Renders/Murata%20Renders/ZRB-SERIES-0402.jpg; Digi-Key Part Number: 490-3296-1-ND; Quantity Available: 1668676; @ qty: 0; Packaging: Cut Tape (CT); Series: GRM; Part Status: Active; Value: 2.2µF; Voltage: 16V; Temperature Coefficient: X5R; Operating Temperature: -55°C ~ 85°C; Features: -; Ratings: -; Applications: General Purpose; Mounting Type: Surface Mount, MLCC; Package / Case: 0603 (1608 Metric); Size / Dimension: 0.063" L x 0.031" W (1.60mm x 0.80mm); Height - Seated (Max): -; Thickness (Max): 0.035" (0.90mm); Lead Spacing: -; Lead Style: -
footprint SMD-0603C
pins: 1, 2

## GRM188R61E105KA12D
designator C?, comment 1µF
CAP CER 1UF 25V X5R 0603; Part Number: GRM188R61E105KA12D; Manufacturer: Murata Electronics North America; Factory Stock: 0; Unit Price (USD): 0.1; Minimum Quantity: 1; Tolerance: ±10%; Datasheets: http://www.murata.com/~/media/webrenewal/support/library/catalog/products/capacitor/mlcc/c02e.pdf; Image: //media.digikey.com/Renders/Murata%20Renders/ZRB-SERIES-0402.jpg; Digi-Key Part Number: 490-3897-1-ND; Quantity Available: 1883393; @ qty: 0; Packaging: Cut Tape (CT); Series: GRM; Part Status: Active; Value: 1µF; Voltage: 25V; Temperature Coefficient: X5R; Operating Temperature: -55°C ~ 85°C; Features: -; Ratings: -; Applications: General Purpose; Mounting Type: Surface Mount, MLCC; Package / Case: 0603 (1608 Metric); Size / Dimension: 0.063" L x 0.031" W (1.60mm x 0.80mm); Height - Seated (Max): -; Thickness (Max): 0.035" (0.90mm); Lead Spacing: -; Lead Style: -
footprint SMD-0603C
pins: 1, 2

## GRM188R71C104KA01D
designator C?, comment 0.10µF
CAP CER 0.1UF 16V X7R 0603; Part Number: GRM188R71C104KA01D; Manufacturer: Murata Electronics North America; Factory Stock: 0; Unit Price (USD): 0.1; Minimum Quantity: 1; Tolerance: ±10%; Datasheets: http://www.murata.com/~/media/webrenewal/support/library/catalog/products/capacitor/mlcc/c02e.pdf; Image: //media.digikey.com/Renders/Murata%20Renders/ZRB-SERIES-0402.jpg; Digi-Key Part Number: 490-1532-1-ND; Quantity Available: 4520200; @ qty: 0; Packaging: Cut Tape (CT); Series: GRM; Part Status: Active; Value: 0.10µF; Voltage: 16V; Temperature Coefficient: X7R; Operating Temperature: -55°C ~ 125°C; Features: -; Ratings: -; Applications: General Purpose; Mounting Type: Surface Mount, MLCC; Package / Case: 0603 (1608 Metric); Size / Dimension: 0.063" L x 0.031" W (1.60mm x 0.80mm); Height - Seated (Max): -; Thickness (Max): 0.035" (0.90mm); Lead Spacing: -; Lead Style: -
footprint SMD-0603C
pins: 1, 2

## GRM188R71H102KA01D
designator C?, comment 1000pF
CAP CER 1000PF 50V X7R 0603; Part Number: GRM188R71H102KA01D; Manufacturer: Murata Electronics North America; Factory Stock: 0; Unit Price (USD): 0.1; Minimum Quantity: 1; Tolerance: ±10%; Datasheets: http://www.murata.com/~/media/webrenewal/support/library/catalog/products/capacitor/mlcc/c02e.pdf; Image: //media.digikey.com/Renders/Murata%20Renders/ZRB-SERIES-0402.jpg; Digi-Key Part Number: 490-1494-1-ND; Quantity Available: 1692751; @ qty: 0; Packaging: Cut Tape (CT); Series: GRM; Part Status: Active; Value: 1000pF; Voltage: 50V; Temperature Coefficient: X7R; Operating Temperature: -55°C ~ 125°C; Features: -; Ratings: -; Applications: General Purpose; Mounting Type: Surface Mount, MLCC; Package / Case: 0603 (1608 Metric); Size / Dimension: 0.063" L x 0.031" W (1.60mm x 0.80mm); Height - Seated (Max): -; Thickness (Max): 0.035" (0.90mm); Lead Spacing: -; Lead Style: -
footprint SMD-0603C
pins: 1, 2

## GRM188R71H103KA01D
designator C?, comment 10000pF
CAP CER 10000PF 50V X7R 0603; Part Number: GRM188R71H103KA01D; Manufacturer: Murata Electronics North America; Factory Stock: 0; Unit Price (USD): 0.1; Minimum Quantity: 1; Tolerance: ±10%; Datasheets: http://www.murata.com/~/media/webrenewal/support/library/catalog/products/capacitor/mlcc/c02e.pdf; Image: //media.digikey.com/Renders/Murata%20Renders/ZRB-SERIES-0402.jpg; Digi-Key Part Number: 490-1512-1-ND; Quantity Available: 3319587; @ qty: 0; Packaging: Cut Tape (CT); Series: GRM; Part Status: Active; Value: 10000pF; Voltage: 50V; Temperature Coefficient: X7R; Operating Temperature: -55°C ~ 125°C; Features: -; Ratings: -; Applications: General Purpose; Mounting Type: Surface Mount, MLCC; Package / Case: 0603 (1608 Metric); Size / Dimension: 0.063" L x 0.031" W (1.60mm x 0.80mm); Height - Seated (Max): -; Thickness (Max): 0.035" (0.90mm); Lead Spacing: -; Lead Style: -
footprint SMD-0603C
pins: 1, 2

## GRM1885C1H331GA01D
designator C?, comment 330pF
CAP CER 330PF 50V NP0 0603; Part Number: GRM1885C1H331GA01D; Manufacturer: Murata Electronics North America; Factory Stock: 0; Unit Price (USD): 0.16; Minimum Quantity: 1; Tolerance: ±2%; Temperature Coefficient: C0G, NP0; Datasheets: http://www.murata.com/~/media/webrenewal/support/library/catalog/products/capacitor/mlcc/c02e.pdf; Image: //media.digikey.com/Renders/Murata%20Renders/ZRB-SERIES-0402.jpg; Digi-Key Part Number: 490-11460-1-ND; Quantity Available: 7231; @ qty: 0; Packaging: Cut Tape (CT); Series: GRM; Part Status: Active; Value: 330pF; Voltage: 50V; Operating Temperature: -55°C ~ 125°C; Features: -; Ratings: -; Applications: General Purpose; Mounting Type: Surface Mount, MLCC; Package / Case: 0603 (1608 Metric); Size / Dimension: 0.063" L x 0.031" W (1.60mm x 0.80mm); Height - Seated (Max): -; Thickness (Max): 0.035" (0.90mm); Lead Spacing: -; Lead Style: -
footprint SMD-0603C
pins: 1, 2

## GRT188R61C106KE13D
designator C?, comment 10µF
CAP CER 10UF 16V X5R 0603; Part Number: GRT188R61C106KE13D; Manufacturer: Murata Electronics North America; Factory Stock: 0; Unit Price (USD): 0.44; Minimum Quantity: 1; Tolerance: ±10%; Datasheets: http://search.murata.co.jp/Ceramy/image/img/A01X/G101/ENG/GRT188R61C106KE13-01.pdf; Image: //media.digikey.com/Renders/Murata%20Renders/0603%28LQG18%29.jpg; Digi-Key Part Number: 490-12317-1-ND; Quantity Available: 19486; @ qty: 0; Packaging: Cut Tape (CT); Series: GRT; Part Status: Active; Value: 10µF; Voltage: 16V; Temperature Coefficient: X5R; Operating Temperature: -55°C ~ 85°C; Features: -; Ratings: AEC-Q200; Applications: Automotive; Mounting Type: Surface Mount, MLCC; Package / Case: 0603 (1608 Metric); Size / Dimension: 0.063" L x 0.031" W (1.60mm x 0.80mm); Height - Seated (Max): -; Thickness (Max): 0.035" (0.90mm); Lead Spacing: -; Lead Style: -
footprint SMD-0603C
pins: 1, 2